# EAGLE library part LT3663 (library PowerProducts)
LT-Spice library generated with : ltspice.ulp from: D:/Program Files (x86)/LTC/LTspiceIV/lib/sym/PowerProducts/LT3681*.asy at 07.10.2012 16:31:01
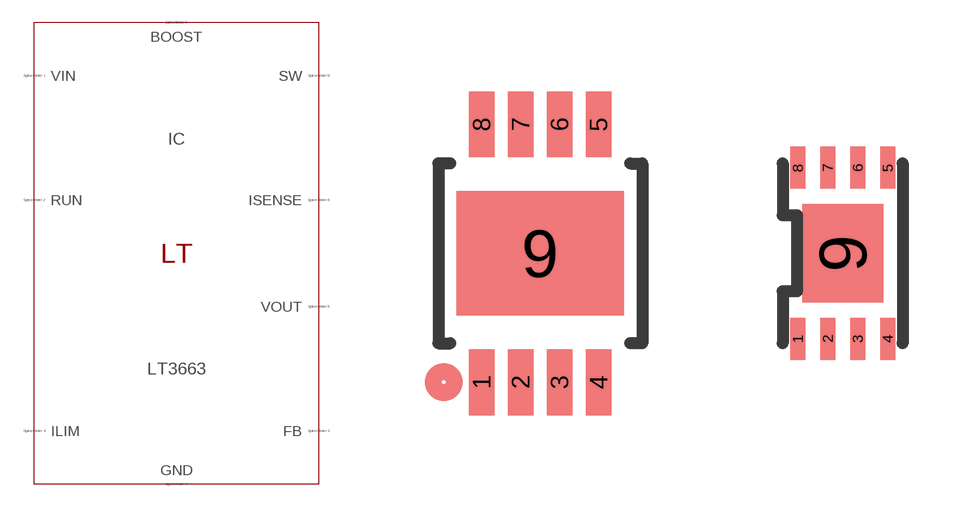
[diagram p84: symbol with the pads of MSOP8(MS8E); footprints MSOP8(MS8E), DFN8(DCB)]

Designator prefix IC

## LT3663MS8E (SPICEMODEL: LT3663.sub; SPICEPREFIX: X; VALUE2: LT3663)  [MSOP8(MS8E)]
1  VIN  pas
2  RUN  pas
3  FB  pas
4  ILIM  pas
5  VOUT  pas
6  ISENSE  pas
7  BOOST  pas
8  SW  pas
9  GND  pas

## LT3663 (SPICEMODEL: LT3663.sub; SPICEPREFIX: X; VALUE2: LT3663)  [DFN8(DCB)]
Pads as for MSOP8(MS8E)

## Footprint MSOP8(MS8E) (pad centres in mm)
Package generated from: MSOP8(MS8E).asc (!PADS-POWERPCB-V9.3-BASIC! DESIGN DATABASE ASCII FILE 1.0) with :import-pads-powerpcb-v5.ulp Version 1.0.1 at 04.10.2012 14:11:20
smd 0.63 x 1.65: 1 -1.462,-3.225; 2 -0.487,-3.225; 3 0.487,-3.225; 4 1.462,-3.225; 5 1.462,3.225; 6 0.487,3.225; 7 -0.487,3.225; 8 -1.462,3.225
smd 4.191 x 3.124: 9 0,0

## Footprint DFN8(DCB) (pad centres in mm)
Package generated from: DFN8(DCB).asc (!PADS-POWERPCB-V5.0-BASIC! DESIGN DATABASE ASCII FILE 1.0) with :import-pads-powerpcb-v5.ulp Version 1.0.1 at 04.10.2012 14:11:17
smd 0.375 x 1.05: 1 -1.125,-2.138; 2 -0.375,-2.138; 3 0.375,-2.138; 4 1.125,-2.138; 5 1.125,2.138; 6 0.375,2.138; 7 -0.375,2.138; 8 -1.125,2.138
smd 2.025 x 2.475: 9 0,0